# EAGLE library part CON-HE10-HARTING-20P (library A4988)
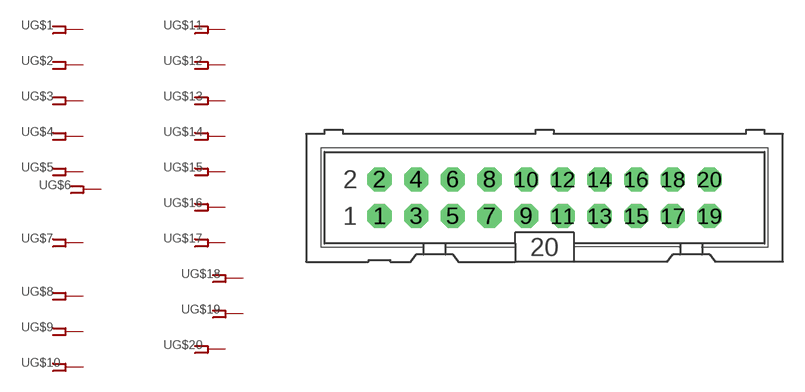
[diagram p11: symbol with the pads of ML20; footprint ML20]

Designator prefix -; gates G$1=FPIN G$2=FPIN G$3=FPIN G$4=FPIN G$5=FPIN G$6=FPIN G$7=FPIN G$8=FPIN G$9=FPIN G$10=FPIN G$11=FPIN G$12=FPIN G$13=FPIN G$14=FPIN G$15=FPIN G$16=FPIN G$17=FPIN G$18=FPIN G$19=FPIN G$20=FPIN

## CON-HE10-HARTING-20P  [ML20]
1  G$1:1  pas
2  G$2:1  pas
3  G$3:1  pas
4  G$4:1  pas
5  G$5:1  pas
6  G$6:1  pas
7  G$7:1  pas
8  G$8:1  pas
9  G$9:1  pas
10  G$10:1  pas
11  G$11:1  pas
12  G$12:1  pas
13  G$13:1  pas
14  G$14:1  pas
15  G$15:1  pas
16  G$16:1  pas
17  G$17:1  pas
18  G$18:1  pas
19  G$19:1  pas
20  G$20:1  pas

## Footprint ML20 (pad centres in mm)
drill 0.914 pad 1.676 octagon: 1 0,0; 2 0,2.54; 3 2.54,0; 4 2.54,2.54; 5 5.08,0; 6 5.08,2.54; 7 7.62,0; 8 7.62,2.54; 9 10.16,0; 10 10.16,2.54; 11 12.7,0; 12 12.7,2.54; 13 15.24,0; 14 15.24,2.54; 15 17.78,0; 16 17.78,2.54; 17 20.32,0; 18 20.32,2.54; 19 22.86,0; 20 22.86,2.54